# Altium footprint library BR1632_FAN.PcbLib: 1 footprints
Each footprint in its own frame and in the unit in brackets; x right, y up, seen from the top. Pads: shape width x height; smd on the part's side, far side on the other; paste and mask are expansions set on the pad; w line width, h text height; cw(c..) or ccw(c..) is an arc to the next point about the centre after c.
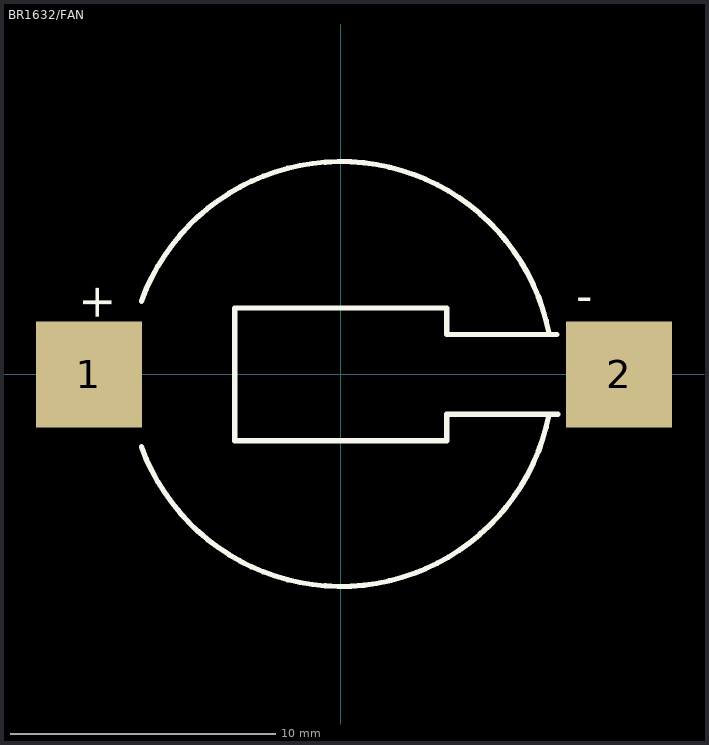
[diagram p0: the footprint, top view; thin cyan lines are the x and y axes]

## BR1632/FAN [mm] "16mm Coin Cell w/ SMT tabs"
pads (2):
  rect 4x4 smd: 1(-9.5,0) 2(10.5,0)
Top Overlay:
  lines w0.2: -7.518,-2.736 ccw(c0,0) 7.853,-1.526 ; -7.518,2.762 cw(c0,0.025) 7.853,1.552 ; 8.153,1.5 4,1.5 4,2.5 -4,2.5 -4,-2.5 4,-2.5 4,-1.5 8.179,-1.5
  text "+" at -8.636,3.429 h1.27
  text "-" at 9.5,2.337 h1.27
3D body: height 3.8, standoff 0, extent -5.745,-5.78 5.809,5.797
3D body: height 3.7, standoff 0, extent -7.546,-7.585 7.595,7.585